# EAGLE library part CON_USB-MICRO-ZX62D-B-5P8 (library ISS-Notify)
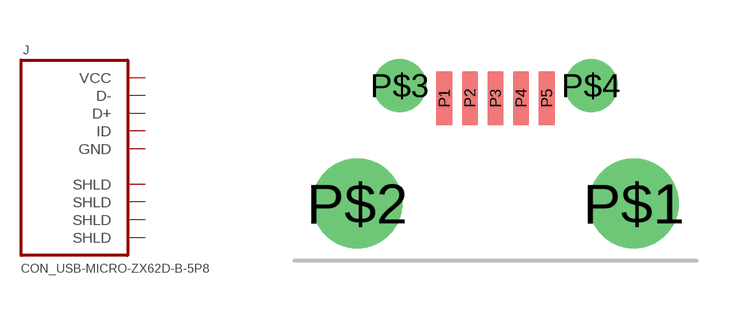
[diagram p7: symbol with the pads of USBMICROSMT-HIROSE; footprint USBMICROSMT-HIROSE]

Designator prefix J

## CON_USB-MICRO-ZX62D-B-5P8  [USBMICROSMT-HIROSE]
P1  VCC  pwr
P2  D-
P3  D+
P4  ID
P5  GND  pwr
P$1  SHLD  sup
P$2  SHLD  sup
P$3  SHLD  sup
P$4  SHLD  sup

## Footprint USBMICROSMT-HIROSE (pad centres in mm)
smd 0.4 x 1.35: P1 -1.046,2.675; P2 -0.396,2.675; P3 0.254,2.675; P4 0.904,2.675; P5 1.554,2.675
drill 1.524: P$1 3.764,0; P$2 -3.256,0
drill 0.838: P$3 -2.171,3; P$4 2.679,3